# Altium footprint library PcbLib1.PcbLib: 27 footprints (part 1 of 2)
Each footprint in its own frame and in the unit in brackets; x right, y up, seen from the top. Pads: shape width x height; smd on the part's side, far side on the other; paste and mask are expansions set on the pad; w line width, h text height; cw(c..) or ccw(c..) is an arc to the next point about the centre after c.
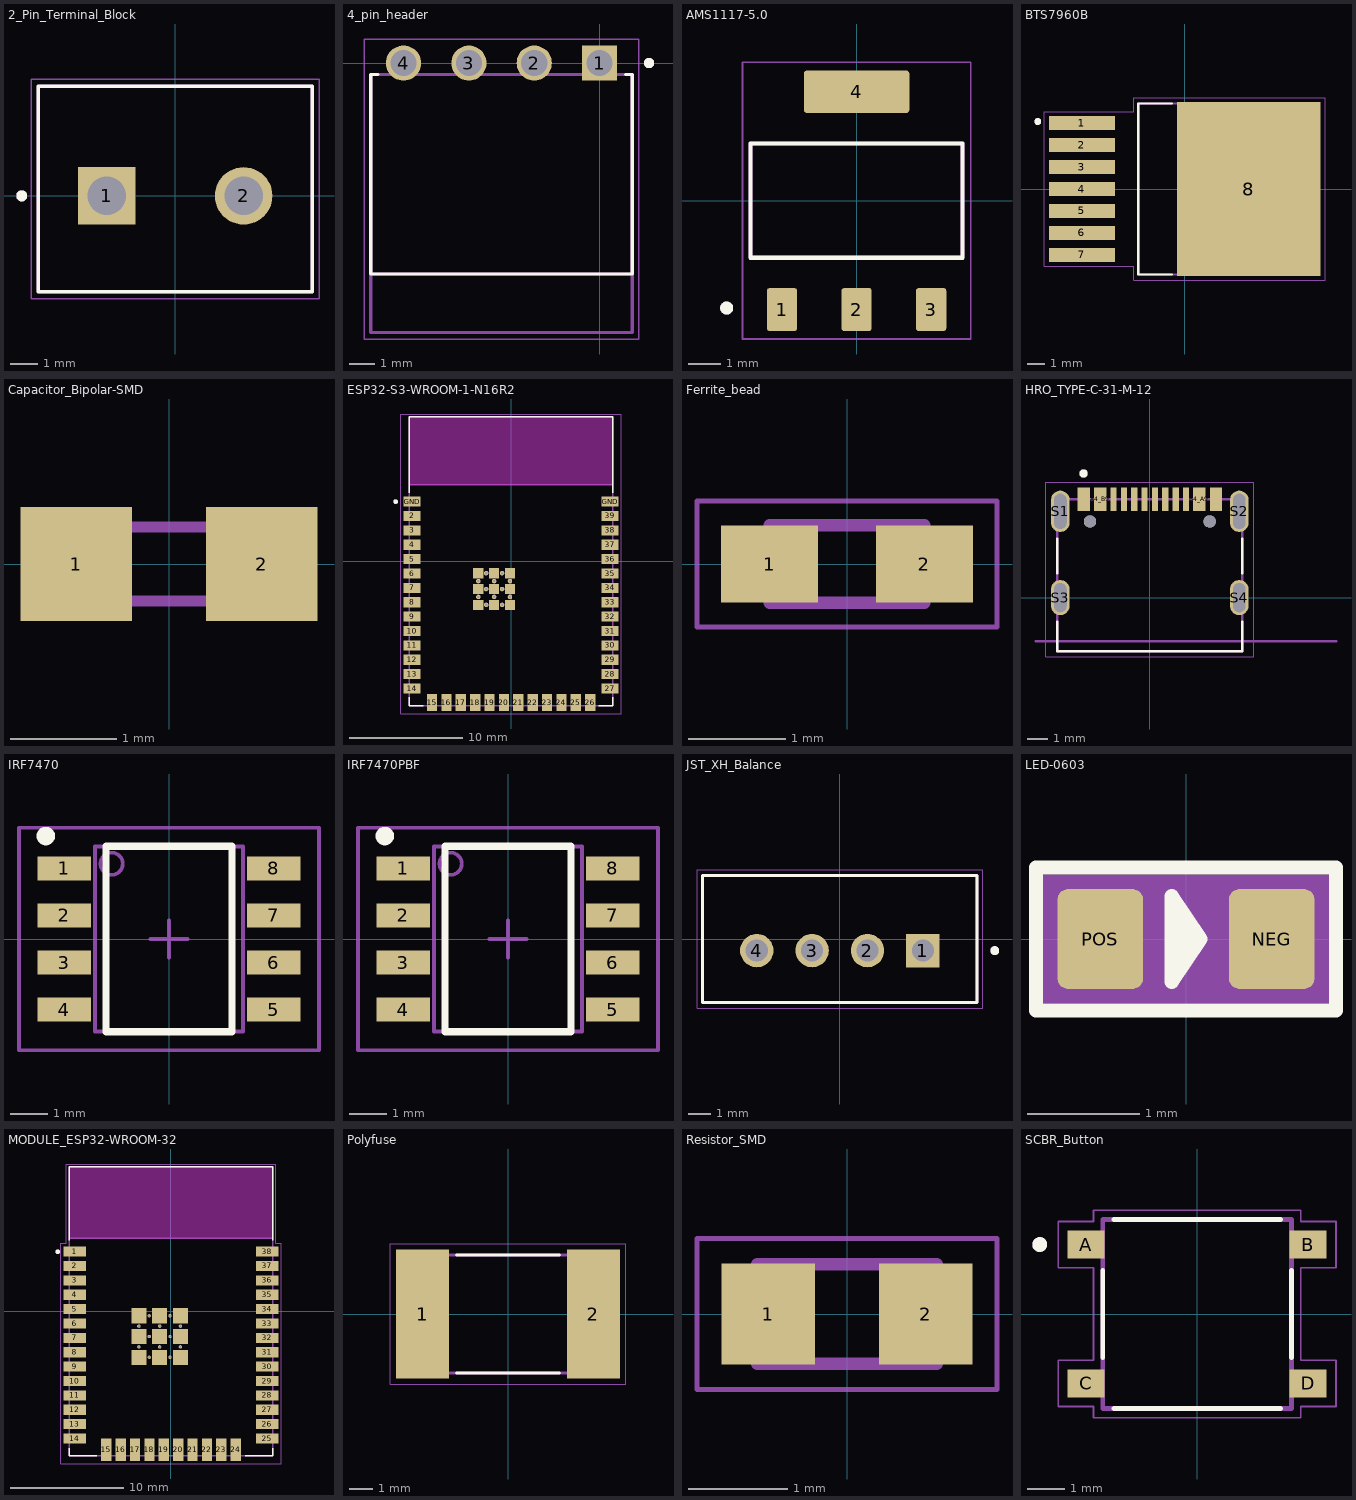
[diagram p0: the footprints below, top view; thin cyan lines are the x and y axes]

## 2_Pin_Terminal_Block [mm]
height 10
pads (2):
  rect 2.1x2.1 / inner round 2.1 / far side rect 2.1x2.1 hole 1.4: 1(-2.5,0)
  round 2.1 hole 1.4: 2(2.5,0)
Top Overlay:
  circle w0.2: c-5.6,0 r0.1
  lines w0.127: -5,-3.5 -5,4 5,4 5,-3.5 -5,-3.5
Mechanical 13:
  circle w0.2: c-5.6,0 r0.1
  lines w0.127: -5,-3.5 5,-3.5 5,4 -5,4 -5,-3.5
Mechanical 15:
  lines w0.05: -5.25,-3.75 5.25,-3.75 5.25,4.25 -5.25,4.25 -5.25,-3.75
3D body "step_temp.STEP": height 10, standoff -4.5, extent -5.6,-3.75 5,3.75

## 4_pin_header [mm]
pads (4):
  rect 1.37x1.37 / inner round 1.37 / far side rect 1.37x1.37 hole 1.02 mask+0.102: 1(0,0)
  round 1.37 hole 1.02 mask+0.102: 2(-2.54,0) 3(-5.08,0) 4(-7.62,0)
Top Overlay:
  circle w0.2: c1.92,0 r0.1
  lines w0.127: -8.625,-0.445 -8.89,-0.445 -8.89,-8.195 1.27,-8.195 1.27,-0.445 1.005,-0.445
Mechanical 13:
  circle w0.2: c1.92,0 r0.1
  lines w0.127: -8.89,-8.195 -8.89,-0.445 1.27,-0.445 1.27,-8.195 ; -8.89,-8.195 1.27,-8.195 ; -8.89,-8.195 -8.89,-10.475 1.27,-10.475 1.27,-8.195
Mechanical 15:
  lines w0.05: -9.14,-10.725 -9.14,0.935 1.52,0.935 1.52,-10.725 -9.14,-10.725
3D body "step_temp.STEP": height 2.86, standoff -6.41, extent -8.89,-9.83 1.27,0.94

## AMS1117-5.0 [mm]
height 1.8
pads (4):
  rrect15% 0.93x1.31 smd: 1(-2.29,-3.345) 2(0,-3.345) 3(2.29,-3.345)
  rrect15% 3.24x1.31 smd: 4(0,3.345)
Top Overlay:
  circle w0.2: c-3.99,-3.3 r0.1
  lines w0.127: -3.253,-1.753 3.253,-1.753 3.253,1.753 -3.253,1.753 -3.253,-1.753
Mechanical 13:
  circle w0.2: c-3.99,-3.3 r0.1
  lines w0.127: -3.253,-1.753 3.253,-1.753 3.253,1.753 -3.253,1.753 -3.253,-1.753
Mechanical 15:
  lines w0.05: -3.502,-4.25 3.502,-4.25 3.502,4.25 -3.502,4.25 -3.502,-4.25
3D body "step_temp.STEP": height 1.8, standoff 0, extent -3.251,-3.499 3.251,3.499

## BTS7960B [mm]
height 4.4
pads (8):
  rect 3.81x0.8 smd: 1(-5.95,3.81) 2(-5.95,2.54) 3(-5.95,1.27) 4(-5.95,0) 5(-5.95,-1.27) 6(-5.95,-2.54) 7(-5.95,-3.81)
  rect 8.29x10.07 smd paste-6: 8(3.71,0)
Top Overlay:
  circle w0.2: c-8.5,3.9 r0.1
  lines w0.127: -0.749,-4.95 -2.69,-4.95 -2.69,4.95 -0.749,4.95
Top Paste:
  region: 4.535,-0.675 2.885,-0.675 2.885,0.675 4.535,0.675
  region: 4.535,1.345 2.885,1.345 2.885,2.695 4.535,2.695
  region: 4.535,3.365 2.885,3.365 2.885,4.715 4.535,4.715
  region: 4.535,-2.695 2.885,-2.695 2.885,-1.345 4.535,-1.345
  region: 4.535,-4.715 2.885,-4.715 2.885,-3.365 4.535,-3.365
  region: 7.295,3.365 5.645,3.365 5.645,4.715 7.295,4.715
  region: 7.295,1.345 5.645,1.345 5.645,2.695 7.295,2.695
  region: 7.295,-0.675 5.645,-0.675 5.645,0.675 7.295,0.675
  region: 7.295,-2.695 5.645,-2.695 5.645,-1.345 7.295,-1.345
  region: 7.295,-4.715 5.645,-4.715 5.645,-3.365 7.295,-3.365
  region: 1.775,-4.715 0.125,-4.715 0.125,-3.365 1.775,-3.365
  region: 1.775,-2.695 0.125,-2.695 0.125,-1.345 1.775,-1.345
  region: 1.775,-0.675 0.125,-0.675 0.125,0.675 1.775,0.675
  region: 1.775,1.345 0.125,1.345 0.125,2.695 1.775,2.695
  region: 1.775,3.365 0.125,3.365 0.125,4.715 1.775,4.715
Mechanical 13:
  circle w0.2: c-8.5,3.9 r0.1
  lines w0.127: -2.69,-4.95 6.71,-4.95 6.71,4.95 -2.69,4.95 -2.69,-4.95
Mechanical 15:
  lines w0.05: -8.11,-4.46 -2.94,-4.46 -2.94,-5.29 8.11,-5.29 8.11,5.29 -2.94,5.29 -2.94,4.46 -8.11,4.46 -8.11,-4.46
3D body "step_temp.STEP": height 4.4, standoff 0, extent -7.45,-4.95 7.45,4.95

## Capacitor_Bipolar-SMD [mm]
pads (2):
  rect 1.05x1.08 smd: 1(-0.875,0) 2(0.875,0)
Mechanical 13:
  region: 0.8,-0.401 0.451,-0.401 0.451,0.4 0.8,0.4
  region: -0.45,-0.4 -0.801,-0.4 -0.801,0.4 -0.45,0.4
  lines w0.102: -0.725,-0.35 0.725,-0.35 ; -0.725,0.35 0.725,0.35

## ESP32-S3-WROOM-1-N16R2 [mm]
height 3.25
pads (61):
  rect 1.5x0.9 smd: 2(-8.75,3.99) 3(-8.75,2.72) 4(-8.75,1.45) 5(-8.75,0.18) 6(-8.75,-1.09) 7(-8.75,-2.36) 8(-8.75,-3.63) 9(-8.75,-4.9) 10(-8.75,-6.17) 11(-8.75,-7.44) 12(-8.75,-8.71) 13(-8.75,-9.98) 14(-8.75,-11.25) 27(8.75,-11.25) 28(8.75,-9.98) 29(8.75,-8.71) 30(8.75,-7.44) 31(8.75,-6.17) 32(8.75,-4.9) 33(8.75,-3.63) 34(8.75,-2.36) 35(8.75,-1.09) 36(8.75,0.18) 37(8.75,1.45) 38(8.75,2.72) 39(8.75,3.99) GND(-8.75,5.26) GND(8.75,5.26)
  rect 0.9x1.5 smd: 15(-6.985,-12.5) 16(-5.715,-12.5) 17(-4.445,-12.5) 18(-3.175,-12.5) 19(-1.905,-12.5) 20(-0.635,-12.5) 21(0.635,-12.5) 22(1.905,-12.5) 23(3.175,-12.5) 24(4.445,-12.5) 25(5.715,-12.5) 26(6.985,-12.5)
  round 0.4 hole 0.2 mask+0: 41_10(-1.5,-1.76) 41_11(-2.9,-1.76) 41_12(-0.1,-1.76) 41_13(-2.9,-3.16) 41_14(-1.5,-3.16) 41_15(-0.1,-3.16) 41_16(-2.2,-1.06) 41_17(-0.8,-1.06) 41_18(-2.2,-2.46) 41_19(-0.8,-2.46) 41_20(-2.2,-3.86) 41_21(-0.8,-3.86)
  rect 0.9x0.9 smd: GND(-2.9,-3.86) GND(-2.9,-2.46) GND(-2.9,-1.06) GND(-1.5,-3.86) GND(-1.5,-2.46) GND(-1.5,-1.06) GND(-0.1,-3.86) GND(-0.1,-2.46) GND(-0.1,-1.06)
Top Overlay:
  circle w0.2: c-10.2,5.26 r0.1
  lines w0.127: -9,-12.02 -9,-12.75 -7.755,-12.75 ; -9,6.03 -9,12.75 9,12.75 9,6.03 ; 7.755,-12.75 9,-12.75 9,-12.02
Keep-Out Layer:
  region: 9,6.75 -9,6.75 -9,12.75 9,12.75
  region: 9,6.75 -9,6.75 -9,12.75 9,12.75
Mechanical 13:
  circle w0.2: c-10.2,5.26 r0.1
  lines w0.127: -9,6.75 9,6.75 ; -9,6.75 -9,12.75 9,12.75 9,6.75 ; -9,6.75 -9,-12.75 9,-12.75 9,6.75
  text "ANTENNA" at -4.5,9.5 h1.27
Mechanical 15:
  lines w0.05: -9.75,-13.5 9.75,-13.5 9.75,13 -9.75,13 -9.75,-13.5
3D body "step_temp.STEP": height 3.25, standoff 0, extent -9,-12.75 9,12.75

## Ferrite_bead [mm]
height 0.95
pads (2):
  rect 1x0.8 smd: 1(-0.8,0) 2(0.8,0)
Mechanical 13:
  lines w0.127: -0.8,-0.4 0.8,-0.4 0.8,0.4 -0.8,0.4 -0.8,-0.4
Mechanical 15:
  lines w0.05: -1.55,-0.65 1.55,-0.65 1.55,0.65 -1.55,0.65 -1.55,-0.65
3D body "step_temp.STEP": height 0.95, standoff 0, extent -0.8,-0.4 0.8,0.4

## HRO_TYPE-C-31-M-12 [mm]
height 3.26
pads (18):
  rect 0.6x1.14 smd mask+0.05: A1_B12(-3.2,4.75) A4_B9(-2.4,4.75) B1_A12(3.2,4.75) B4_A9(2.4,4.75)
  rect 0.3x1.14 smd mask+0.05: A5(-1.25,4.75) A6(-0.25,4.75) A7(0.25,4.75) A8(1.25,4.75) B5(1.75,4.75) B6(0.75,4.75) B7(-0.75,4.75) B8(-1.75,4.75)
  oval 0.9x2 hole 0.6 slot 1.7 at 90 deg: S1(-4.325,4.17) S2(4.325,4.17)
  oval 0.9x1.7 hole 0.6 slot 1.4 at 90 deg: S3(-4.325,0) S4(4.325,0)
  round 0.6 hole 0.6 unplated: ""(-2.89,3.68) ""(2.89,3.68)
Top Overlay:
  circle w0.2: c-3.2,6 r0.1
  lines w0.127: -4.47,-1.17 -4.47,-2.6 4.47,-2.6 4.47,-1.17 ; -4.47,1.17 -4.47,2.85 ; 4.47,1.17 4.47,2.85
Mechanical 13:
  circle w0.2: c-3.2,6 r0.1
  lines w0.127: -5.5,-2.11 9,-2.11 ; -4.47,-2.6 -4.47,4.75 4.47,4.75 4.47,-2.6 -4.47,-2.6
  text "PCB EDGE" at 5.2,-1.9 h0.61
Mechanical 15:
  lines w0.05: -5.025,-2.85 5.025,-2.85 5.025,5.57 -5.025,5.57 -5.025,-2.85
3D body "step_temp.STEP": height 3.31, standoff -0.99, extent -4.47,-2.6 4.47,5.305

## IRF7470 [mm]
pads (8):
  rect 1.45x0.65 smd paste+0 mask+0.102: 1(-2.825,1.905) 2(-2.825,0.635) 3(-2.825,-0.635) 4(-2.825,-1.905) 5(2.825,-1.905) 6(2.825,-0.635) 7(2.825,0.635) 8(2.825,1.905)
Top Overlay:
  circle w0.25: c-3.327,2.78 r0.125
  lines w0.2: -1.7,-2.5 1.7,-2.5 1.7,2.5 -1.7,2.5 -1.7,-2.5
Mechanical 13:
  circle w0.1: c-1.549,2.032 r0.3
  lines w0.1: -0.5,0 0.5,0 ; 0,-0.5 0,0.5 ; -2,-2.5 -2,2.5 2,2.5 2,-2.5 -2,-2.5
Mechanical 15:
  lines w0.1: -4.05,-3 4.05,-3 4.05,3 -4.05,3 -4.05,-3

## IRF7470PBF [mm]
pads (8):
  rect 1.45x0.65 smd paste+0 mask+0.102: 1(-2.825,1.905) 2(-2.825,0.635) 3(-2.825,-0.635) 4(-2.825,-1.905) 5(2.825,-1.905) 6(2.825,-0.635) 7(2.825,0.635) 8(2.825,1.905)
Top Overlay:
  circle w0.25: c-3.327,2.78 r0.125
  lines w0.2: -1.7,-2.5 1.7,-2.5 1.7,2.5 -1.7,2.5 -1.7,-2.5
Mechanical 13:
  circle w0.1: c-1.549,2.032 r0.3
  lines w0.1: -0.5,0 0.5,0 ; 0,-0.5 0,0.5 ; -2,-2.5 -2,2.5 2,2.5 2,-2.5 -2,-2.5
Mechanical 15:
  lines w0.1: -4.05,-3 4.05,-3 4.05,3 -4.05,3 -4.05,-3

## JST_XH_Balance [mm]
height 7
pads (4):
  rect 1.508x1.508 / inner round 1.508 / far side rect 1.508x1.508 hole 1: 1(3.75,-0.525)
  round 1.508 hole 1: 2(1.25,-0.525) 3(-1.25,-0.525) 4(-3.75,-0.525)
Top Overlay:
  circle w0.2: c7,-0.525 r0.1
  lines w0.127: -6.2,-2.875 -6.2,2.875 6.2,2.875 6.2,-2.875 -6.2,-2.875
Mechanical 13:
  circle w0.2: c7,-0.525 r0.1
  lines w0.127: -6.2,-2.875 -6.2,2.875 6.2,2.875 6.2,-2.875 -6.2,-2.875
Mechanical 15:
  lines w0.05: -6.45,-3.125 -6.45,3.125 6.45,3.125 6.45,-3.125 -6.45,-3.125
3D body "step_temp.STEP": height 7, standoff -3.4, extent -6.2,-2.875 6.2,2.875

## LED-0603 [mil]
pads (2):
  rrect25% 30x35 smd: NEG(30,0) POS(-30,0)
Top Overlay:
  lines w5: 0,-7.5 0,7.5 ; 0,-7.5 5,0 0,7.5 ; 0,-7.5 -5,-15 -5,15 0,7.5 ; -52.5,-25 -52.5,25 52.5,25 52.5,-25 -52.5,-25
Mechanical 15:
  region: 50,-22.53 -50.06,-22.53 -50.06,22.5 50,22.5

## MODULE_ESP32-WROOM-32 [mm]
height 3.2
pads (59):
  rect 2x0.9 smd: 1(-8.5,5.26) 2(-8.5,3.99) 3(-8.5,2.72) 4(-8.5,1.45) 5(-8.5,0.18) 6(-8.5,-1.09) 7(-8.5,-2.36) 8(-8.5,-3.63) 9(-8.5,-4.9) 10(-8.5,-6.17) 11(-8.5,-7.44) 12(-8.5,-8.71) 13(-8.5,-9.98) 14(-8.5,-11.25) 25(8.5,-11.25) 26(8.5,-9.98) 27(8.5,-8.71) 28(8.5,-7.44) 29(8.5,-6.17) 30(8.5,-4.9) 31(8.5,-3.63) 32(8.5,-2.36) 33(8.5,-1.09) 34(8.5,0.18) 35(8.5,1.45) 36(8.5,2.72) 37(8.5,3.99) 38(8.5,5.26)
  rect 0.9x2 smd: 15(-5.715,-12.25) 16(-4.445,-12.25) 17(-3.175,-12.25) 18(-1.905,-12.25) 19(-0.635,-12.25) 20(0.635,-12.25) 21(1.905,-12.25) 22(3.175,-12.25) 23(4.445,-12.25) 24(5.715,-12.25)
  rect 1.33x1.33 smd: 39_1(-2.835,-0.405) 39_2(-1,-0.405) 39_3(0.835,-0.405) 39_4(-2.835,-2.24) 39_5(-1,-2.24) 39_6(0.835,-2.24) 39_7(-2.835,-4.075) 39_8(-1,-4.075) 39_9(0.835,-4.075)
  round 0.3 hole 0.2: 39_10(-1.917,-0.405) 39_11(-0.082,-0.405) 39_12(-2.835,-1.322) 39_13(-1,-1.322) 39_14(0.835,-1.322) 39_15(-1.917,-2.24) 39_16(-0.082,-2.24) 39_17(-2.835,-3.157) 39_18(-1,-3.157) 39_19(0.835,-3.157) 39_20(-1.917,-4.075) 39_21(-0.082,-4.075)
Top Overlay:
  circle w0.2: c-10,5.25 r0.1
  lines w0.127: -9,-12.1 -9,-12.75 -6.55,-12.75 ; -9,6.25 -9,12.75 9,12.75 9,6.25 ; 6.55,-12.75 9,-12.75 9,-12.1
Keep-Out Layer:
  region: 9,6.45 -9,6.45 -9,12.75 9,12.75
  region: 9,6.45 -9,6.45 -9,12.75 9,12.75
Mechanical 13:
  circle w0.2: c-10,5.25 r0.1
  lines w0.127: -9,6.45 -9,-12.75 9,-12.75 9,6.45 ; -9,6.45 -9,12.75 9,12.75 9,6.45 ; -9,6.45 9,6.45
  text "ANTENNA" at -6,9 h1.78
Mechanical 15:
  lines w0.05: -9.75,-13.5 9.75,-13.5 9.75,6 9.25,6 9.25,13 -9.25,13 -9.25,6 -9.75,6 -9.75,-13.5
3D body "step_temp.STEP": height 3.2, standoff 0, extent -9,-12.75 9,12.75

## Polyfuse [mm]
pads (2):
  rect 2.3x5.6 smd paste+0 mask+0.102: 1(-3.7,0) 2(3.7,0)
Top Overlay:
  lines w0.127: -2.23,-2.56 2.23,-2.56 ; -2.23,2.56 2.23,2.56
Mechanical 13:
  lines w0.127: -3.678,-2.56 3.678,-2.56 3.678,2.56 -3.678,2.56 -3.678,-2.56
Mechanical 15:
  lines w0.05: -5.1,-3.05 -5.1,3.05 5.1,3.05 5.1,-3.05 -5.1,-3.05

## Resistor_SMD [mm]
pads (2):
  rect 0.94x1.02 smd: 1(-0.79,0) 2(0.79,0)
Mechanical 13:
  lines w0.127: -0.9,-0.5 0.9,-0.5 0.9,0.5 -0.9,0.5 -0.9,-0.5
Mechanical 15:
  lines w0.05: -1.508,-0.758 1.508,-0.758 1.508,0.758 -1.508,0.758 -1.508,-0.758
3D body "step_temp.STEP": height 0.5, standoff 0, extent -0.8,-0.4 0.8,0.4

## SCBR_Button [mm]
pads (4):
  rect 1x0.75 smd: A(-3,1.875) B(3,1.875) C(-3,-1.875) D(3,-1.875)
Top Overlay:
  circle w0.2: c-4.25,1.875 r0.1
  lines w0.127: -2.55,-1.18 -2.55,1.18 ; -2.25,-2.55 2.25,-2.55 ; -2.25,2.55 2.25,2.55 ; 2.55,-1.18 2.55,1.18
Mechanical 13:
  circle w0.2: c-4.25,1.875 r0.1
  lines w0.127: -2.55,-2.55 2.55,-2.55 2.55,2.55 -2.55,2.55 -2.55,-2.55
Mechanical 15:
  lines w0.05: -3.75,-2.5 -2.8,-2.5 -2.8,-2.8 2.8,-2.8 2.8,-2.5 3.75,-2.5 3.75,-1.25 2.8,-1.25 2.8,1.25 3.75,1.25 3.75,2.5 2.8,2.5 2.8,2.8 -2.8,2.8 -2.8,2.5 -3.75,2.5 -3.75,1.25 -2.8,1.25 -2.8,-1.25 -3.75,-1.25 -3.75,-2.5